# Altium footprint library fst.PcbLib: 10 footprints
Each footprint in its own frame and in the unit in brackets; x right, y up, seen from the top. Pads: shape width x height; smd on the part's side, far side on the other; paste and mask are expansions set on the pad; w line width, h text height; cw(c..) or ccw(c..) is an arc to the next point about the centre after c.
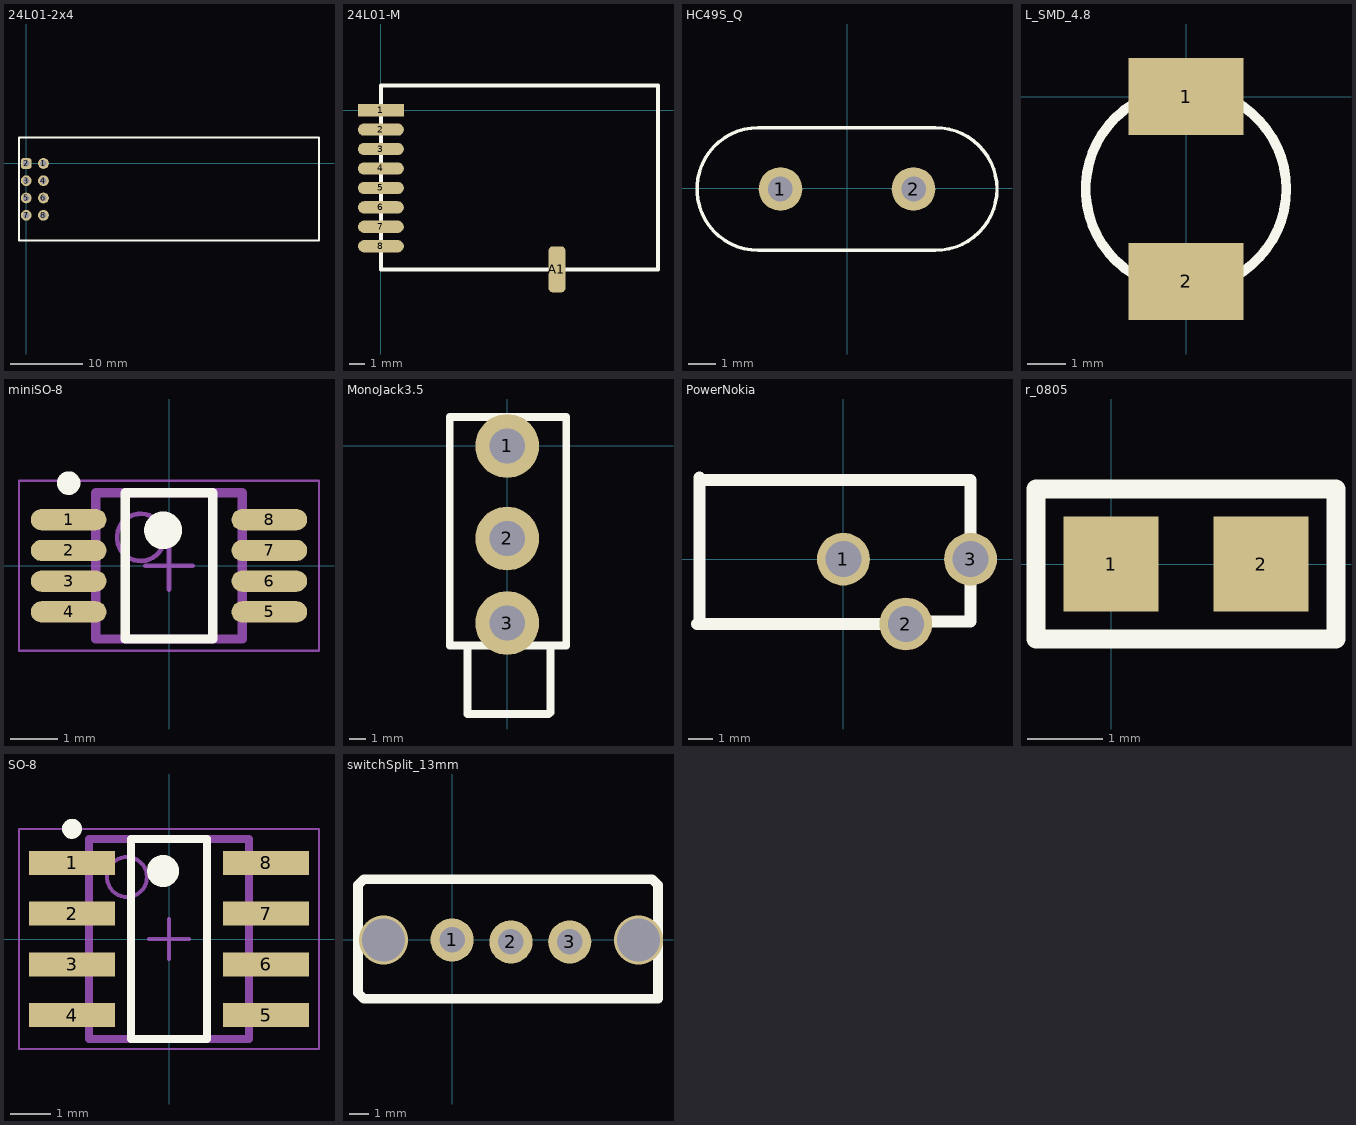
[diagram p0: the footprints below, top view; thin cyan lines are the x and y axes]

## 24L01-2x4 [mm]
pads (8):
  round 1.5 hole 0.9: 1(2.4,0) 3(0,-2.4) 4(2.4,-2.4) 5(0,-4.8) 6(2.4,-4.8) 7(0,-7.2) 8(2.4,-7.2)
  rrect50% 1.5x1.5 hole 0.9: 2(0,0)
Top Overlay:
  lines w0.254: -1,-10.7 -1,3.6 40.7,3.6 40.7,-10.7 -1,-10.7

## 24L01-M [mm]
pads (9):
  rect 3x0.8 smd: 1(0,0)
  oval 3x0.8 smd: 2(0,-1.27) 3(0,-2.54) 4(0,-3.81) 5(0,-5.08) 6(0,-6.35) 7(0,-7.62) 8(0,-8.89)
  rrect50% 1.1x3 smd: A1(11.5,-10.4)
Top Overlay:
  lines w0.254: 0,-10.4 0,0 0,1.6 17.9,1.6 18.1,1.6 18.1,-10.4 0,-10.4

## HC49S_Q [mm]
pads (2):
  round 1.6 hole 0.9: 1(-2.44,-0.02) 2(2.44,-0.02)
Top Overlay:
  lines w0.127: -3.25,-2.27 cw(c-3.25,-0.02) -3.25,2.23 3.24,2.23 cw(c3.25,-0.02) 3.239,-2.27 -3.25,-2.27
3D body: height 3.7, standoff -2.5, extent -5.5,-2.27 5.5,2.23

## L_SMD_4.8 [mm]
pads (2):
  rect 3x2 smd: 1(0,0) 2(0,-4.8)
Top Overlay:
  circle w0.254: c0,-2.4 r2.608

## miniSO-8 [mm] "miniSOP, 8-Leads, Body 3,00x3,00mm, Pitch 0,65mm, IPC Medium Density"
height 1.1
pads (8):
  oval 1.6x0.45 smd: 1(-2.125,0.975) 2(-2.125,0.325) 3(-2.125,-0.325) 4(-2.125,-0.975) 5(2.125,-0.975) 6(2.125,-0.325) 7(2.125,0.325) 8(2.125,0.975)
Top Overlay:
  circle w0.25: c-2.125,1.75 r0.125
  circle w0.4: c-0.125,0.75 r0.2
  lines w0.2: -0.925,-1.55 -0.925,1.55 0.925,1.55 0.925,-1.55 -0.925,-1.55
Mechanical 1:
  text ".Designator" at 0.3,-2 h0.7
Mechanical 13:
  circle w0.1: c-0.6,0.6 r0.5
  lines w0.2: -1.55,-1.55 -1.55,1.55 1.55,1.55 1.55,-1.55 -1.55,-1.55
Mechanical 15:
  lines w0.05: -3.175,-1.8 -3.175,1.8 3.175,1.8 3.175,-1.8 -3.175,-1.8
  lines w0.1: -0.5,0 0.5,0 ; 0,-0.5 0,0.5
3D body: height 1.1, standoff 0.05, extent -1.55,-1.55 1.55,1.55

## MonoJack3.5 [mm] "1/8\" 3.5mm Phono/Mono Phone Panel Jack"
pads (3):
  round 4 hole 2.2: 1(0,0) 2(0,-5.8) 3(0,-11.1)
Top Overlay:
  lines w0.5: -2.5,-12.6 -2.5,-16.8 2.6,-16.8 2.7,-16.7 2.7,-12.5 ; 3.6,1.8 -3.6,1.8 -3.6,-12.5 3.7,-12.5 3.7,1.8

## PowerNokia [mm]
pads (3):
  round 2.2 hole 1.5: 1(0,0) 2(2.6,-2.7) 3(5.3,0)
Top Overlay:
  lines w0.5: -6.1,-2.7 2.6,-2.7 ; -6,-2.6 -6,3.4 -5.9,3.3 5.3,3.3 5.3,-2.6 2.7,-2.6
  lines w1: 2.6,-2.7 2.7,-2.6

## r_0805 [mm]
pads (2):
  rect 1.27x1.27 smd: 1(0,0) 2(2,0)
Top Overlay:
  lines w0.254: -1,-1 3,-1 3,1 -1,1 -1,-1

## SO-8 [mm] "PLASTIC PACKAGE  CASE 751–05  (SO–8)  ISSUE P"
height 1.75
pads (8):
  rect 2.15x0.6 smd: 1(-2.425,1.905) 2(-2.425,0.635) 3(-2.425,-0.635) 4(-2.425,-1.905) 5(2.425,-1.905) 6(2.425,-0.635) 7(2.425,0.635) 8(2.425,1.905)
Top Overlay:
  circle w0.4: c-0.15,1.7 r0.2
  circle w0.25: c-2.425,2.755 r0.125
  lines w0.2: -0.95,-2.5 0.95,-2.5 0.95,2.5 -0.95,2.5 -0.95,-2.5
Mechanical 13:
  circle w0.1: c-1.05,1.55 r0.5
  lines w0.2: -2,-2.5 2,-2.5 2,2.5 -2,2.5 -2,-2.5
  text ".Designator" at 0.4,-2.3 h1
Mechanical 15:
  lines w0.05: -3.75,-2.75 3.75,-2.75 3.75,2.75 -3.75,2.75 -3.75,-2.75
  lines w0.1: -0.5,0 0.5,0 ; 0,-0.5 0,0.5
3D body: height 1.75, standoff 0.25, extent -2,-2.5 2,2.5

## switchSplit_13mm [mm] "SK12N16E04-2000"
pads (3):
  round 2.2 hole 1.3: 1(0,0) 2(3,-0.1) 3(6,-0.1)
via 9.5,0 diameter 2.5 hole 2.2
via -3.5,0 diameter 2.5 hole 2.2
Top Overlay:
  lines w0.5: -4.8,-2.7 -4.8,2.8 -4.5,3.1 10.2,3.1 10.5,2.8 10.5,0 10.5,-3 -4.5,-3 -4.8,-2.7